# Altium schematic symbol library MOLX-22-28-4033.SchLib: 1 symbol
Pins are listed as number, name and electrical type; pins without a type are passive.

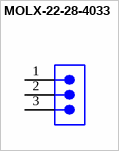
[diagram p0: symbol MOLX-22-28-4033]

## MOLX-22-28-4033
designator ?
pins: 1, 2, 3